# EAGLE library part 5025700893 (library con-sd-card)
micro SD Card Connector Molex
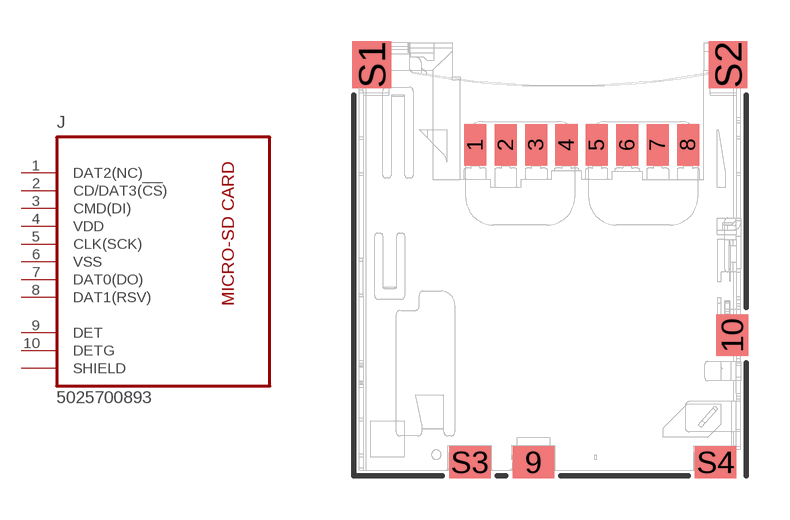
[diagram p6: symbol with the pads of 5025700893; footprint 5025700893]

Designator prefix J

## 5025700893  [5025700893]
1  DAT2(NC)
2  CD/DAT3(!CS!)
3  CMD(DI)
4  VDD
5  CLK(SCK)
6  VSS
7  DAT0(DO)
8  DAT1(RSV)
9  DET  pas
10  DETG  pas
S1  SHIELD  pas
S2  SHIELD  pas
S3  SHIELD  pas
S4  SHIELD  pas

## Footprint 5025700893 (pad centres in mm)
MICRO SD CARD
smd 0.8 x 1.5: 1 -2.7,-3.7; 2 -1.6,-3.7; 3 -0.5,-3.7; 4 0.6,-3.7; 5 1.7,-3.7; 6 2.8,-3.7; 7 3.9,-3.7; 8 5,-3.7
smd 1.5 x 1.15: 9 -0.6,-15.2; S3 -2.9,-15.2; S4 6,-15.2
smd 1.15 x 1.5: 10 6.6,-10.6
smd 1.4 x 1.7: S1 -6.45,-0.8; S2 6.45,-0.8